# Altium footprint library 灯.PcbLib: 6 footprints
Each footprint in its own frame and in the unit in brackets; x right, y up, seen from the top. Pads: shape width x height; smd on the part's side, far side on the other; paste and mask are expansions set on the pad; w line width, h text height; cw(c..) or ccw(c..) is an arc to the next point about the centre after c.
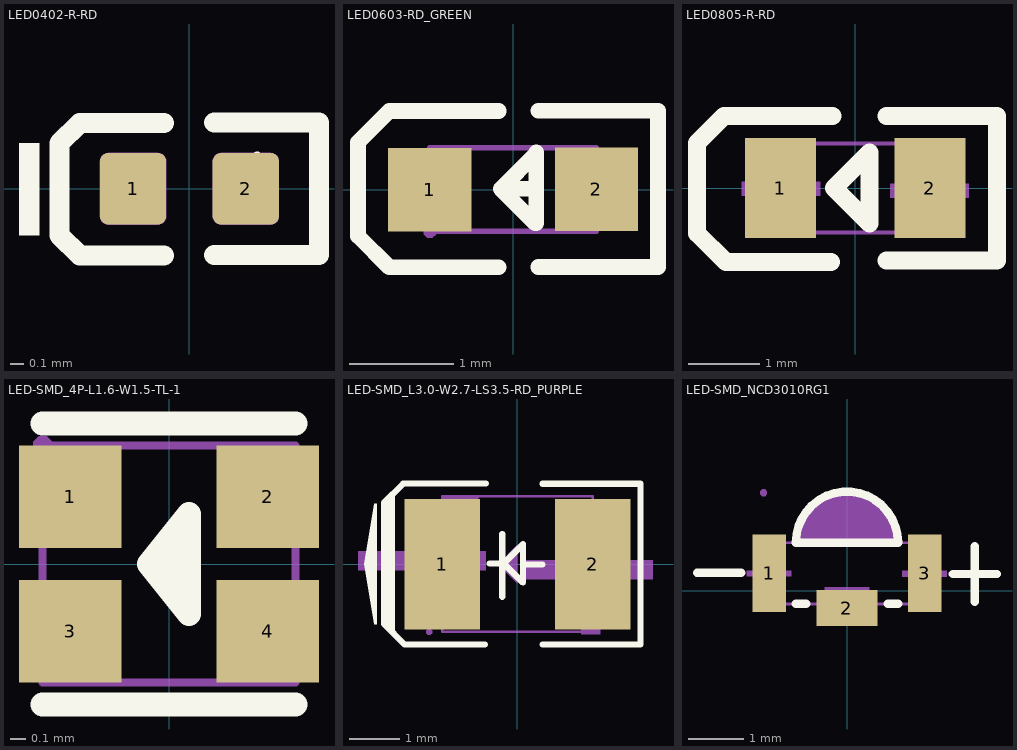
[diagram p0: the footprints below, top view; thin cyan lines are the x and y axes]

## LED0402-R-RD [mm] "&#21457;&#20809;&#20108;&#26497;&#31649;; 0402; LED0402"
height 3999.992
pads (2):
  rrect25% 0.5x0.54 smd mask+0.05: 1(-0.425,0) 2(0.425,0)
Top Overlay:
  region: -1.133,-0.35 -1.133,0.343 -1.285,0.343 -1.285,-0.35
  region: 0.54,0.25 0.539,0.256 0.538,0.261 0.535,0.267 0.531,0.271 0.527,0.275 0.522,0.278 0.516,0.279 0.51,0.28 0.504,0.279 0.499,0.278 0.493,0.275 0.489,0.271 0.485,0.267 0.482,0.261 0.481,0.256 0.48,0.25 0.481,0.244 0.482,0.238 0.485,0.233 0.489,0.229 0.493,0.225 0.499,0.222 0.504,0.221 0.51,0.22 0.516,0.221 0.522,0.222 0.527,0.225 0.531,0.229 0.535,0.233 0.538,0.238 0.539,0.244
  lines w0.152: -0.191,-0.502 -0.828,-0.502 -0.98,-0.35 -0.98,0.343 -0.828,0.495 -0.191,0.495 ; 0.188,-0.499 0.977,-0.499 0.977,0.499 0.188,0.499
Mechanical 2:
  region: 0.4,-0.203 0.4,0.203 0.476,0.203 0.476,-0.203
  region: 0.222,0.038 0.628,0.038 0.628,-0.038 0.222,-0.038
  region: -0.628,0.038 -0.222,0.038 -0.222,-0.038 -0.628,-0.038
Mechanical 9:
  region: -0.612,-0.27 -0.237,-0.27 -0.225,-0.269 -0.214,-0.265 -0.203,-0.259 -0.193,-0.252 -0.186,-0.242 -0.18,-0.231 -0.176,-0.22 -0.175,-0.208 -0.175,0.208 -0.176,0.22 -0.18,0.231 -0.186,0.242 -0.193,0.252 -0.203,0.259 -0.214,0.265 -0.225,0.269 -0.237,0.27 -0.612,0.27 -0.625,0.269 -0.636,0.265 -0.647,0.259 -0.657,0.252 -0.664,0.242 -0.67,0.231 -0.674,0.22 -0.675,0.208 -0.675,-0.208 -0.674,-0.22 -0.67,-0.231 -0.664,-0.242 -0.657,-0.252 -0.647,-0.259 -0.636,-0.265 -0.625,-0.269 -0.612,-0.27
  region: 0.237,-0.27 0.612,-0.27 0.625,-0.269 0.636,-0.265 0.647,-0.259 0.657,-0.252 0.664,-0.242 0.67,-0.231 0.674,-0.22 0.675,-0.208 0.675,0.208 0.674,0.22 0.67,0.231 0.664,0.242 0.657,0.252 0.647,0.259 0.636,0.265 0.625,0.269 0.612,0.27 0.237,0.27 0.225,0.269 0.214,0.265 0.203,0.259 0.193,0.252 0.186,0.242 0.18,0.231 0.176,0.22 0.175,0.208 0.175,-0.208 0.176,-0.22 0.18,-0.231 0.186,-0.242 0.193,-0.252 0.203,-0.259 0.214,-0.265 0.225,-0.269 0.237,-0.27
3D body "LED0402_L1.0-W0.5-H0.4.step": height 0.4, standoff 0, extent -0.5,-0.25 0.5,0.25

## LED0603-RD_GREEN [mm]
pads (2):
  rect 0.8x0.8 smd: 1(-0.799,-0.003) 2(0.799,0.003)
Top Overlay:
  lines w0.15: -0.14,-0.746 -1.19,-0.746 -1.49,-0.446 -1.49,-0.346 -1.49,0.354 -1.49,0.454 -1.19,0.754 -0.14,0.754 ; 0.22,0.007 -0.12,0.007 ; 0.24,-0.744 1.39,-0.744 ; 0.24,0.757 1.39,0.757 1.39,-0.723 ; -0.12,0.007 0.21,-0.323 0.22,-0.323 0.22,0.357 0.22,0.347 -0.12,0.007
Mechanical 6:
  region: 0.529,0.068 1.069,0.068 1.069,-0.062 0.529,-0.062
  region: 0.735,-0.267 0.735,0.273 0.865,0.273 0.865,-0.267
  region: -1.07,0.062 -0.53,0.062 -0.53,-0.068 -1.07,-0.068
Mechanical 15:
  region: -0.739,-0.403 -0.739,-0.379 -0.775,-0.343 -0.824,-0.343 -0.859,-0.379 -0.859,-0.403 -0.859,-0.428 -0.824,-0.463 -0.775,-0.463 -0.739,-0.428 -0.739,-0.403
  region: 0.5,-0.396 0.5,0.404 0.8,0.404 0.8,-0.396
  region: -0.8,-0.403 -0.8,0.397 -0.5,0.397 -0.5,-0.403
  lines w0.051: -0.8,-0.4 -0.8,0.4 0.8,0.4 0.8,-0.4 -0.8,-0.4

## LED0805-R-RD [mm]
pads (2):
  rect 1x1.4 smd: 1(-1.05,0) 2(1.05,0)
Top Overlay:
  lines w0.254: -0.344,-1.043 -1.817,-1.043 -2.224,-0.636 -2.224,0.634 -1.843,1.015 -0.319,1.015 ; 0.443,-1.017 1.993,-1.017 1.993,1.015 0.443,1.015 ; -0.3,0 -0.2,-0.1 0.2,-0.5 0.2,0.5 -0.2,0.1 -0.3,0
Mechanical 6:
  region: -0.494,-0.109 -1.594,-0.109 -1.594,0.091 -0.494,0.091
  region: 0.494,0.06 1.594,0.06 1.594,-0.14 0.494,-0.14
  region: 0.941,-0.556 0.941,0.544 1.141,0.544 1.141,-0.556
Mechanical 15:
  region: -0.6,-0.625 -1,-0.625 -1,0.625 -0.6,0.625
  region: 1,-0.625 0.6,-0.625 0.6,0.625 1,0.625
  region: 1.06,0.625 1.06,0.65 1.025,0.685 0.975,0.685 0.94,0.65 0.94,0.625 0.94,0.6 0.975,0.565 1.025,0.565 1.06,0.6 1.06,0.625
  lines w0.051: -1,-0.625 1,-0.625 1,0.625 -1,0.625 -1,-0.625

## LED-SMD_4P-L1.6-W1.5-TL-1 [mm]
pads (4):
  rect 0.65x0.65 smd: 1(-0.625,0.425) 2(0.625,0.425) 3(-0.625,-0.425) 4(0.625,-0.425)
Top Overlay:
  lines w0.152: -0.8,-0.889 0.8,-0.889 ; -0.8,0.889 0.8,0.889 ; 0.006,-0.166 0.127,0.155 ; 0.127,0 -0.127,0 ; -0.127,0 0.127,-0.318 0.127,0.318 -0.127,0
Mechanical 6:
  region: 0.508,0.381 0.889,0.381 0.889,0.508 0.381,0.508 0.381,0.381
  region: 0.571,0.572 0.571,0.191 0.698,0.191 0.698,0.699 0.571,0.699
  region: -0.762,-0.572 -0.381,-0.572 -0.381,-0.445 -0.889,-0.445 -0.889,-0.572
  region: -0.762,0.381 -0.381,0.381 -0.381,0.508 -0.889,0.508 -0.889,0.381
  region: 0.571,-0.278 0.571,-0.659 0.698,-0.659 0.698,-0.151 0.571,-0.151
  region: 0.508,-0.469 0.889,-0.469 0.889,-0.342 0.381,-0.342 0.381,-0.469
Mechanical 15:
  region: -0.74,0.75 -0.74,0.775 -0.775,0.81 -0.825,0.81 -0.86,0.775 -0.86,0.75 -0.86,0.725 -0.825,0.69 -0.775,0.69 -0.74,0.725 -0.74,0.75
  region: -0.45,0.125 -0.8,0.125 -0.8,0.725 -0.45,0.725
  region: -0.45,-0.725 -0.8,-0.725 -0.8,-0.125 -0.45,-0.125
  region: 0.8,-0.725 0.45,-0.725 0.45,-0.125 0.8,-0.125
  region: 0.8,0.125 0.45,0.125 0.45,0.725 0.8,0.725
  lines w0.051: -0.8,-0.75 0.8,-0.75 0.8,0.75 -0.8,0.75 -0.8,-0.75

## LED-SMD_L3.0-W2.7-LS3.5-RD_PURPLE [mm]
pads (2):
  rect 1.5x2.6 smd paste+0 mask+0.05: 1(-1.5,0) 2(1.5,0)
Top Overlay:
  region: -2.8,1.2 -2.8,-1.2 -2.85,-1.2 -3.05,0 -2.85,1.2
  lines w0.125: -2.568,-1.269 -2.568,1.311 ; -2.498,-1.346 -2.498,1.381 ; -0.65,-1.6 -2.25,-1.6 -2.657,-1.191 -2.657,1.095 -2.657,1.222 -2.276,1.603 -0.625,1.603 ; -0.55,0.012 -0.27,0.012 ; -0.3,-0.65 -0.3,0.6 ; 0.111,-0.009 0.5,-0.009 ; 0.5,-1.6 2.45,-1.6 2.45,1.6 0.5,1.6 ; -0.27,0.012 0.111,-0.369 0.111,0.393 -0.27,0.012
Mechanical 6:
  region: -0.381,0 0,0.381 0,-0.381
  region: 0.155,-0.305 0.155,0.076 2.695,0.076 2.695,-0.305
  region: 1.651,-1.397 1.27,-1.397 1.27,1.143 1.651,1.143
  region: -3.175,-0.127 -3.175,0.254 -0.635,0.254 -0.635,-0.127
  region: -1.5,1.35 -0.738,1.35 -1.5,0.588
Mechanical 15:
  region: -1.76,1.1 -0.96,1.1 -0.96,-1.1 -1.76,-1.1
  region: 0.96,1.1 1.76,1.1 1.76,-1.1 0.96,-1.1
  region: -1.7,-1.35 -1.7,-1.325 -1.735,-1.29 -1.785,-1.29 -1.82,-1.325 -1.82,-1.35 -1.82,-1.375 -1.785,-1.41 -1.735,-1.41 -1.7,-1.375 -1.7,-1.35
  lines w0.051: -1.5,-1.35 1.5,-1.35 1.5,1.35 -1.5,1.35 -1.5,-1.35

## LED-SMD_NCD3010RG1 [mm]
pads (3):
  rect 0.6x1.4 smd paste+0 mask+0.05: 1(-1.4,0.313) 3(1.4,0.312)
  rect 1.1x0.65 smd paste+0 mask+0.05: 2(0,-0.313)
Top Overlay:
  lines w0.152: -2.7,0.325 -1.9,0.325 ; -0.921,0.861 cw(c-0.001,0.862) 0.92,0.862 -0.92,0.862 ; -0.92,-0.238 -0.73,-0.238 ; 0.73,-0.238 0.92,-0.238 ; 1.9,0.3 2.7,0.3 ; 2.3,-0.2 2.3,0.8
Mechanical 6:
  region: -1.804,0.255 -1.804,0.355 -1.004,0.355 -1.004,0.255
  region: 1.45,-0.1 1.35,-0.1 1.35,0.7 1.45,0.7
  region: 0.995,0.254 0.995,0.354 1.795,0.354 1.795,0.254
  region: 0.9,0.9 0.9,1.018 0.839,1.247 0.72,1.453 0.553,1.62 0.347,1.739 0.118,1.8 -0.118,1.8 -0.347,1.739 -0.553,1.62 -0.72,1.453 -0.839,1.247 -0.9,1.018 -0.9,0.9
Mechanical 15:
  region: 0.4,0.062 0.4,-0.238 -0.4,-0.238 -0.4,0.062
  region: -1.5,0.863 -1.1,0.863 -1.1,-0.237 -1.5,-0.237
  region: 1.1,0.862 1.5,0.862 1.5,-0.238 1.1,-0.238
  region: -1.44,1.762 -1.44,1.787 -1.475,1.822 -1.525,1.822 -1.56,1.787 -1.56,1.762 -1.56,1.737 -1.525,1.702 -1.475,1.702 -1.44,1.737 -1.44,1.762
  lines w0.051: -1.5,-0.238 1.5,-0.238 1.5,0.862 0.9,0.862 ccw(c0,0.862) -0.9,0.862 -1.5,0.862 -1.5,-0.238